# EAGLE library part EM406 (library Explore Labs EAGLE Library)
EM406 GPS Connector Proven layout and schematic for EM406 connector. Spark Fun Electronics SKU : GPS-00579
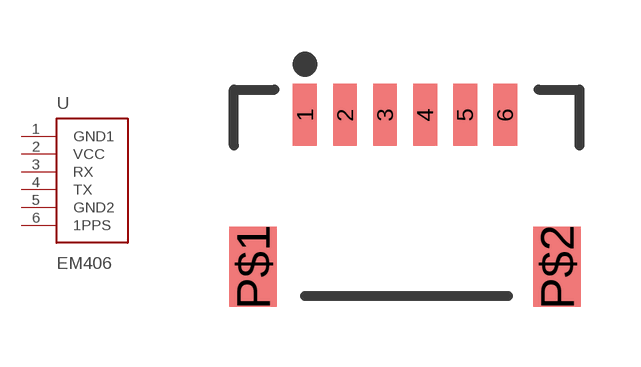
[diagram p17: symbol with the pads of EM406; footprint EM406]

Designator prefix U

## EM406  [EM406]
1  GND1
2  VCC
3  RX
4  TX
5  GND2
6  1PPS

## Footprint EM406 (pad centres in mm)
smd 0.6 x 1.55: 1 -2.5,1.8; 2 -1.5,1.8; 3 -0.5,1.8; 4 0.5,1.8; 5 1.5,1.8; 6 2.5,1.8
smd 1.2 x 2: P$1 -3.8,-2; P$2 3.8,-2